# Altium footprint library Header.PcbLib: 12 footprints
Each footprint in its own frame and in the unit in brackets; x right, y up, seen from the top. Pads: shape width x height; smd on the part's side, far side on the other; paste and mask are expansions set on the pad; w line width, h text height; cw(c..) or ccw(c..) is an arc to the next point about the centre after c.
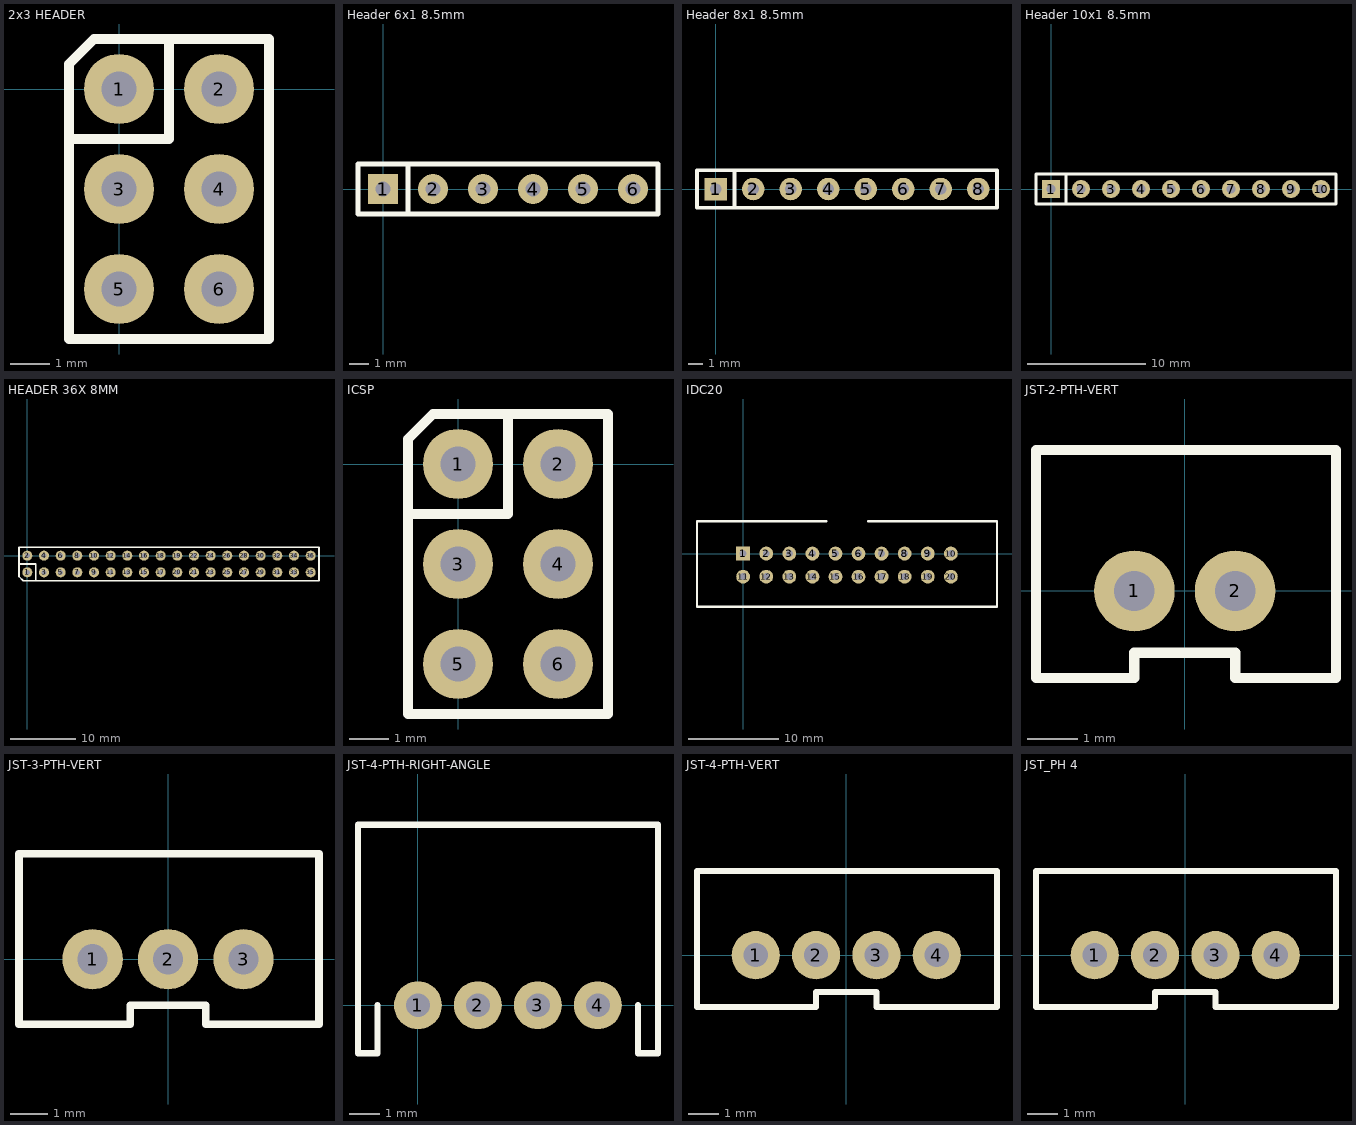
[diagram p0: the footprints below, top view; thin cyan lines are the x and y axes]

## 2x3 HEADER [mil] "0.1\" Header"
pads (6):
  round 70 hole 35.43: 1(0,0) 2(100,0) 3(0,-100) 4(100,-100) 5(0,-200) 6(100,-200)
Top Overlay:
  lines w10: -50,-50 50,-50 50,50 ; -50,-250 150,-250 150,50 -25,50 -50,25 -50,-250
3D body "Pin Header 1x3 TH Pitch 2.54mm.stp": height 373.85, standoff -125.98, extent -50,-250 50,50
3D body "Pin Header 1x3 TH Pitch 2.54mm.stp": height 373.85, standoff -125.98, extent 50,-250 150,50

## Header 6x1 8.5mm [mil] "Stackable 6 pin header"
pads (6):
  rect 60x60 hole 30: 1(0,0)
  round 60 hole 30: 2(100,0) 3(200,0) 4(300,0) 5(400,0) 6(500,0)
Top Overlay:
  lines w10: 50,-50 -50,-50 -50,0 -50,50 50,50 ; 50,-50 50,50 ; 50,-50 550,-50 550,50 50,50
3D body "Pin Header 1x6 TH Pitch 2.54mm.stp": height 125.98, standoff -373.85, extent -50,-49.99 550,50.01

## Header 8x1 8.5mm [mil] "Stackable 8 pin header"
pads (8):
  rect 60x60 hole 30: 1(0,0)
  round 60 hole 30: 2(100,0) 3(200,0) 4(300,0) 5(400,0) 6(500,0) 7(600,0) 8(700,0)
Top Overlay:
  lines w10: 50,-50 50,50 ; -50,-50 750,-50 750,50 -50,50 -50,-50
3D body "Pin Header 1x8 TH Pitch 2.54mm.stp": height 125.98, standoff -373.85, extent -50,-49.99 750,50.01

## Header 10x1 8.5mm [mil] "Stackable 10 pin header"
pads (10):
  rect 60x60 hole 30: 1(0,0)
  round 60 hole 30: 2(100,0) 3(200,0) 4(300,0) 5(400,0) 6(500,0) 7(600,0) 8(700,0) 9(800,0) 10(900,0)
Top Overlay:
  lines w10: 50,-50 -50,-50 -50,50 50,50 ; 50,-50 950,-50 950,50 50,50 ; 50,-50 50,50
3D body "Pin Header 1x10 TH Pitch 2.54mm.stp": height 125.98, standoff -373.85, extent -49.99,-49.99 950.01,50.01

## HEADER 36X 8MM [mil] "Stackable 10 pin header"
pads (36):
  round 60 hole 30: 1(0,-100) 2(0,0) 3(100,-100) 4(100,0) 5(200,-100) 6(200,0) 7(300,-100) 8(300,0) 9(400,-100) 10(400,0) 11(500,-100) 12(500,0) 13(600,-100) 14(600,0) 15(700,-100) 16(700,0) 17(800,-100) 18(800,0) 19(900,0) 20(900,-100) 21(1000,-100) 22(1000,0) 23(1100,-100) 24(1100,0) 25(1200,-100) 26(1200,0) 27(1300,-100) 28(1300,0) 29(1400,-100) 30(1400,0) 31(1500,-100) 32(1500,0) 33(1600,-100) 34(1600,0) 35(1700,-100) 36(1700,0)
Top Overlay:
  lines w10: -50,-50 50,-50 50,-150 ; -50,-125 -50,50 1750,50 1750,-150 -25,-150 -50,-125
3D body "Pin Header 2x9 TH Pitch 2.54mm.stp": height 125.98, standoff -373.85, extent -49.99,-149.99 850.01,50.01
3D body "Pin Header 2x9 TH Pitch 2.54mm.stp": height 125.98, standoff -373.85, extent 850.01,-149.99 1750.01,50.01

## ICSP [mil]
pads (6):
  round 70 hole 35.43: 1(0,0) 2(100,0) 3(0,-100) 4(100,-100) 5(0,-200) 6(100,-200)
Top Overlay:
  lines w10: -50,-50 50,-50 50,50 ; -50,-250 150,-250 150,50 -25,50 -50,25 -50,-250
3D body "header.SLDPRT": height -16, standoff -350.65, extent 49.99,-250 149.99,-150
3D body "header.SLDPRT": height -16, standoff -350.65, extent -50.01,-250 49.99,-150
3D body "header.SLDPRT": height -16, standoff -350.65, extent -50.01,-150 49.99,-50
3D body "header.SLDPRT": height -16, standoff -350.65, extent 49.99,-150 149.99,-50
3D body "header.SLDPRT": height -16, standoff -350.65, extent 49.99,-50 149.99,50
3D body "header.SLDPRT": height -16, standoff -350.65, extent -50.01,-50 49.99,50
3D body "pin.sldprt": height 82.42, standoff -311.28, extent 60.91,-8 139.06,7.75
3D body "pin.sldprt": height 82.42, standoff -311.28, extent -39.09,-8 39.06,7.75
3D body "pin.sldprt": height 82.42, standoff -311.28, extent -39.09,-108 39.06,-92.25
3D body "pin.sldprt": height 82.42, standoff -311.28, extent -39.09,-208 39.06,-192.25
3D body "pin.sldprt": height 82.42, standoff -311.28, extent 60.91,-208 139.06,-192.25
3D body "pin.sldprt": height 82.42, standoff -311.28, extent 60.91,-108 139.06,-92.25

## IDC20 [mil] "Stackable 10 pin header"
pads (20):
  rect 60x60 hole 30: 1(0,0)
  round 60 hole 30: 2(100,0) 3(200,0) 4(300,0) 5(400,0) 6(500,0) 7(600,0) 8(700,0) 9(800,0) 10(900,0) 11(0,-100) 12(100,-100) 13(200,-100) 14(300,-100) 15(400,-100) 16(500,-100) 17(600,-100) 18(700,-100) 19(800,-100) 20(900,-100)
Top Overlay:
  lines w10: -200,-230 -200,-130 -200,140 ; -197.64,-230 130,-230 1100,-230 1100,140 542.36,140 ; -197.64,140 360,140
3D body "c-5103308-5-b-3d.stp": height 390, standoff -118, extent -200,-228 1100,132

## JST-2-PTH-VERT [mil]
pads (2):
  round 63 hole 31.5: 1(-39.37,0) 2(39.37,0)
Top Overlay:
  lines w7.99: -116.14,-67.84 -39.37,-67.84
  lines w8: -116.14,-67.84 -116.14,110 118.11,110 118.11,-67.84 39.37,-67.84 39.37,-48.16 -39.37,-48.16 -39.37,-67.84
3D body "B2B-PH-K-S.STEP": height 236.22, standoff -133.86, extent -113.86,-63.86 118.43,113.31

## JST-3-PTH-VERT [mil]
pads (3):
  round 63 hole 31.5: 1(-78.74,0) 2(0,0) 3(78.74,0)
Top Overlay:
  lines w7.99: -155.51,-67.84 -39.37,-67.84
  lines w8: -155.51,-67.84 -155.51,110 157.48,110 157.48,-67.84 39.37,-67.84 39.37,-48.16 -39.37,-48.16 -39.37,-67.84
3D body "B3B-PH-K-S.STEP": height 236.22, standoff -133.86, extent -154.52,-66.92 156.5,110.24

## JST-4-PTH-RIGHT-ANGLE [mil]
pads (4):
  round 63 hole 31.5: 1(0,0) 2(78.74,0) 3(157.48,0) 4(236.22,0)
Top Overlay:
  lines w8: -78.74,237 -78.74,-62.99 -53.15,-62.99 -53.15,0 ; -78.48,237 315.22,237 315.22,-62.99 289.22,-62.99 289.22,0
3D body "S4B-PH-K-S.STEP": height 192.76, standoff -130.08, extent -74.88,-60 314.88,239.21

## JST-4-PTH-VERT [mil]
pads (4):
  round 63 hole 31.5: 1(-118.11,0) 2(-39.37,0) 3(39.37,0) 4(118.11,0)
Top Overlay:
  lines w7.99: -194.88,-67.84 -39.37,-67.84
  lines w8: -194.88,-67.84 -194.88,110 196.85,110 196.85,-67.84 39.37,-67.84 39.37,-48.16 -39.37,-48.16 -39.37,-67.84
3D body "B4B-PH-K-S.STEP": height 236.22, standoff -133.86, extent -194.88,-70 194.88,107.16

## JST_PH 4 [mil]
pads (4):
  round 63 hole 31.5: 1(-118.11,0) 2(-39.37,0) 3(39.37,0) 4(118.11,0)
Top Overlay:
  lines w7.99: -194.88,-67.84 -39.37,-67.84
  lines w8: -194.88,-67.84 -194.88,110 196.85,110 196.85,-67.84 39.37,-67.84 39.37,-48.16 -39.37,-48.16 -39.37,-67.84
3D body "B4B-PH-K-S.STEP": height 236.22, standoff -133.86, extent -194.88,-70 194.88,107.16